# Altium footprint library SRP6030VA-2R2M.PcbLib: 1 footprints
Each footprint in its own frame and in the unit in brackets; x right, y up, seen from the top. Pads: shape width x height; smd on the part's side, far side on the other; paste and mask are expansions set on the pad; w line width, h text height; cw(c..) or ccw(c..) is an arc to the next point about the centre after c.
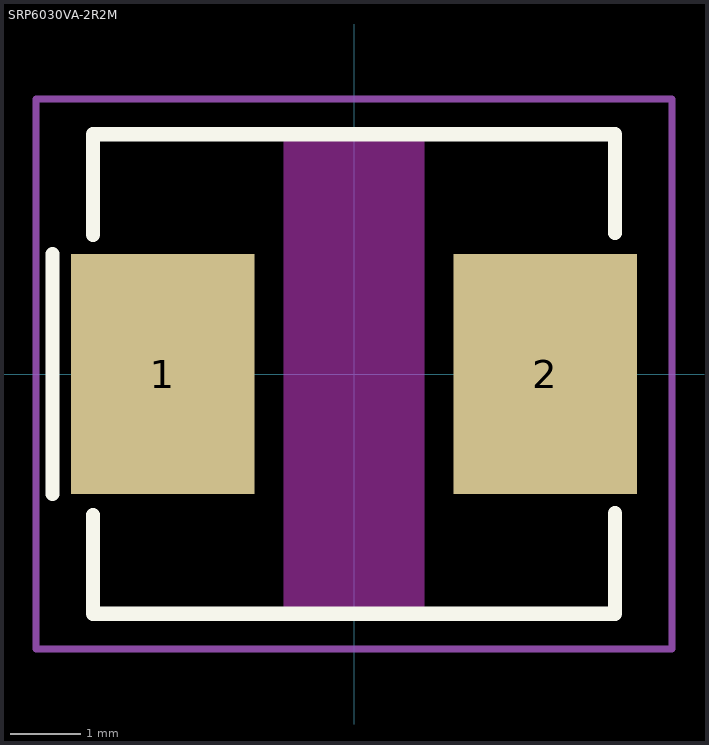
[diagram p0: the footprint, top view; thin cyan lines are the x and y axes]

## SRP6030VA-2R2M [mm]
pads (2):
  rect 2.6x3.4 smd: 1(-2.713,0) 2(2.713,0)
Top Layer keep-out:
  rectangle: -1,-3.4 1,3.397
Top Overlay:
  lines w0.2: -4.275,-1.7 -4.275,1.7 ; -3.7,-2 -3.7,-3.4 3.7,-3.4 3.7,-1.975 ; -3.7,1.975 -3.7,3.4 3.7,3.4 3.7,2
Top Courtyard:
  lines w0.1: -4.513,-3.9 -3.7,-3.9 4.512,-3.9 4.512,-1.672 4.512,3.9 3.7,3.9 -4.513,3.9 -4.513,1.695 -4.513,-3.9
3D body "IND_SRP6030VA_BRN.step": height 3, standoff 0, extent -3.696,-3.404 3.696,3.404